# Altium footprint library PCB_Lib.PcbLib: 301 footprints (part 15 of 19)
Each footprint in its own frame and in the unit in brackets; x right, y up, seen from the top. Pads: shape width x height; smd on the part's side, far side on the other; paste and mask are expansions set on the pad; w line width, h text height; cw(c..) or ccw(c..) is an arc to the next point about the centre after c.
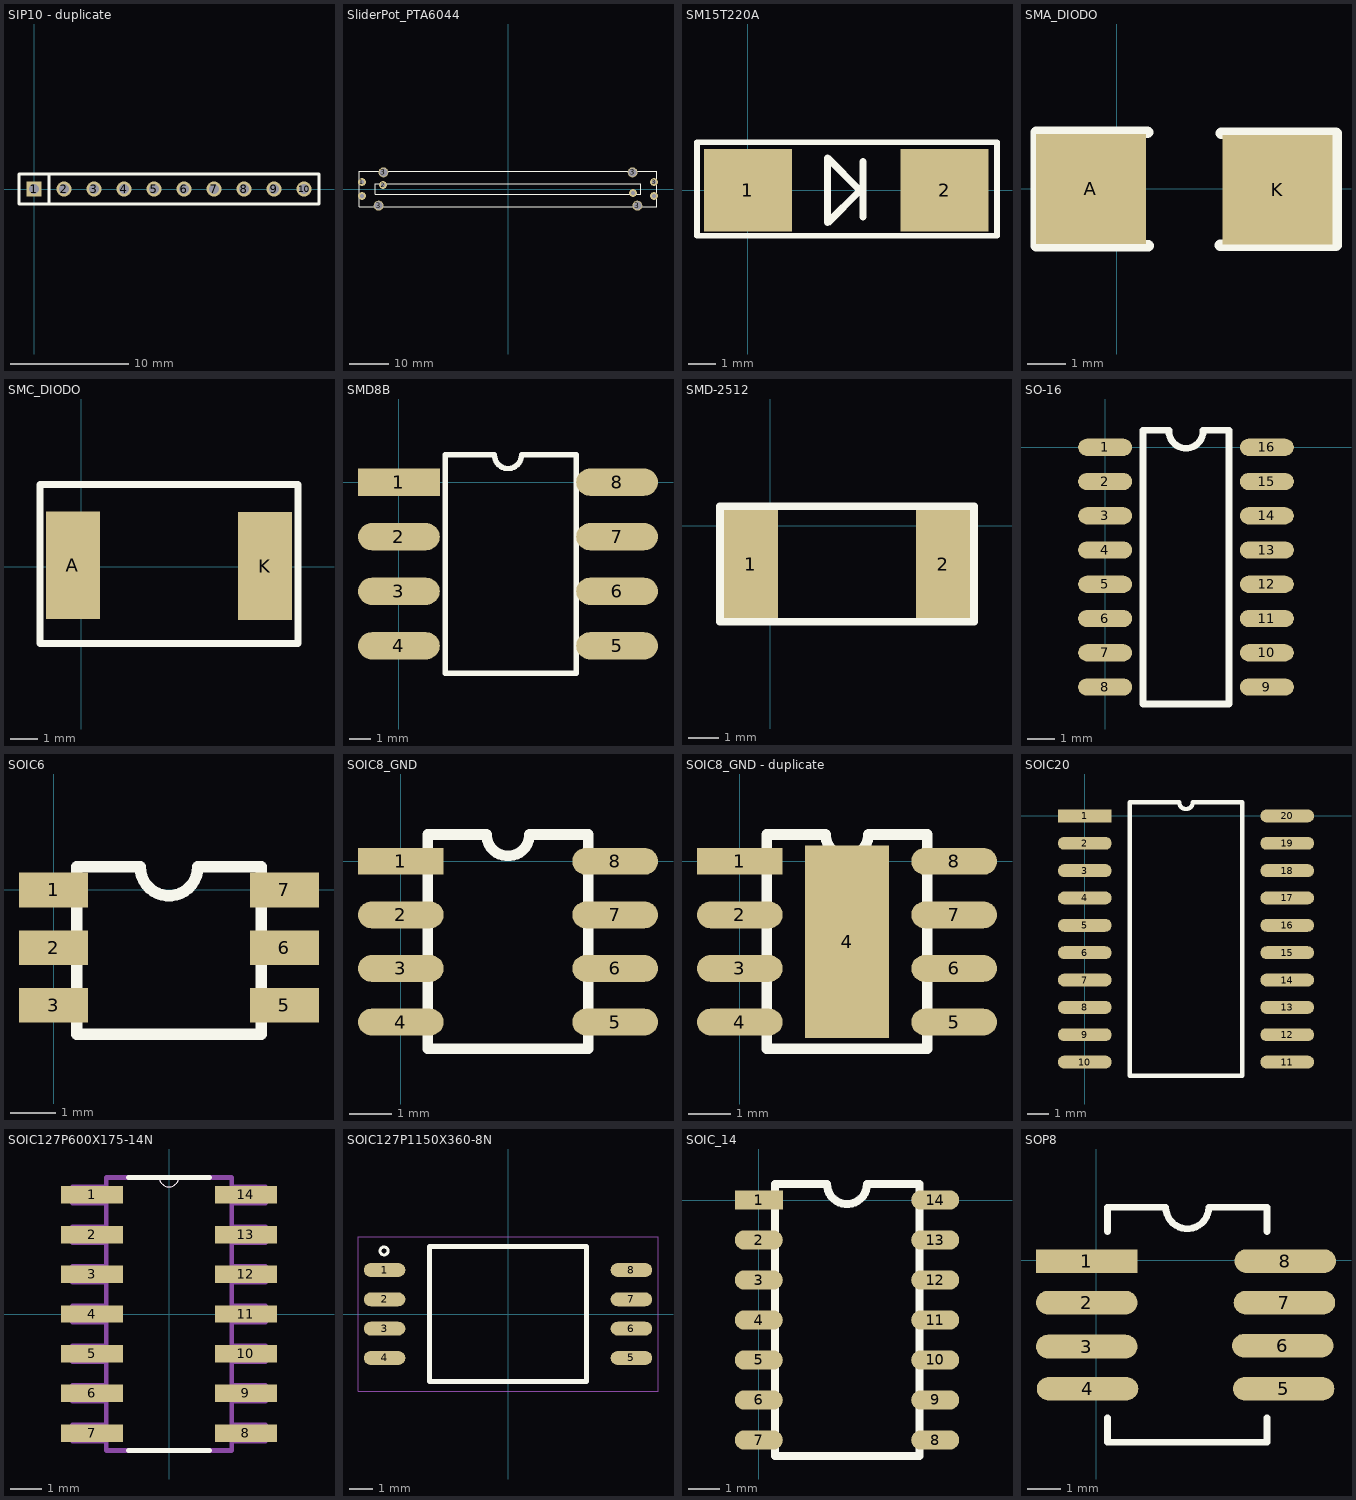
[diagram p14: the footprints below, top view; thin cyan lines are the x and y axes]

## SIP10 - duplicate [mil]
pads (10):
  rect 50x50 hole 32: 1(0,0)
  round 50 hole 32: 2(100,0) 3(200,0) 4(300,0) 5(400,0) 6(500,0) 7(600,0) 8(700,0) 9(800,0) 10(900,0)
Top Overlay:
  lines w10: 50,-50 50,50 ; -50,-50 950,-50 950,50 -50,50 -50,-50

## SliderPot_PTA6044 [mm]
pads (10):
  round 2 hole 1: 1(-36.8,1.75) 1'(-36.8,-1.75) 2(-31.5,1) 2'(31.5,-1) 3(36.8,1.75) 3'(36.8,-1.75)
  round 2.5 hole 2: 3(-32.6,-4.2) 3(-31.4,4.2) 3(31.4,4.2) 3(32.6,-4.2)
Top Overlay:
  lines w0.254: -37.5,-4.5 -37.5,4.5 37.5,4.5 37.5,-4.5 -37.5,-4.5 ; -33.5,-1.3 -33.5,1.3 33.5,1.3 33.5,-1.3 -33.5,-1.3

## SM15T220A [mm]
pads (2):
  rect 3.2x3 smd: 1(0,0) 2(7.15,0)
Top Overlay:
  lines w0.2: -1.85,-1.65 -1.85,1.75 9.05,1.75 9.05,-1.65 -1.85,-1.65
  lines w0.254: 4.175,-0.975 4.175,1.05 ; 2.9,-1.175 2.9,1.175 4.075,0 2.9,-1.175

## SMA_DIODO [mm] "SMD R&C"
pads (2):
  rect 2.87x2.87 smd: A(-0.675,0) K(4.2,-0.025)
Top Overlay:
  lines w0.305: 0.8,1.475 -1.221,1.475 -2.1,1.475 -2.1,-1.485 0.818,-1.485 ; 2.7,-1.475 5.725,-1.475 5.725,1.45 2.725,1.45

## SMC_DIODO [mil] "SMD R&C"
pads (2):
  rect 78.74x157.48 smd: A(-12,2) K(269,1)
Top Overlay:
  lines w10: -60,-112 317,-112 317,1 317,120 -60,120 -60,12 -60,-112

## SMD8B [mil]
pads (8):
  rect 150x50 smd: 1(0,0)
  oval 150x50 smd: 2(0,-100) 3(0,-200) 4(0,-300) 5(400,-300) 6(400,-200) 7(400,-100) 8(400,0)
Top Overlay:
  lines w10: 85,-350 85,50 175,50 ccw(c200,50) 225,50 325,50 325,-350 85,-350

## SMD-2512 [mil]
pads (2):
  rect 70x140 smd: 1(-25,-50) 2(225,-50)
Top Overlay:
  lines w10: -65,-125 -65,25 265,25 265,-125 -65,-125

## SO-16 [mm]
pads (16):
  oval 2x0.635 smd: 1(0,0) 2(0,-1.27) 3(0,-2.54) 4(0,-3.81) 5(0,-5.08) 6(0,-6.35) 7(0,-7.62) 8(0,-8.89) 9(6,-8.89) 10(6,-7.62) 11(6,-6.35) 12(6,-5.08) 13(6,-3.81) 14(6,-2.54) 15(6,-1.27) 16(6,0)
Top Overlay:
  lines w0.254: 2.365,0.6 ccw(c3,0.6) 3.635,0.6 ; 2.365,0.635 1.4,0.635 1.4,-9.525 4.6,-9.525 4.6,0.635 3.635,0.635

## SOIC6 [mil] "Circuito de 6 patas SMD"
height 100
pads (6):
  rect 60x30 smd: 1(0,0) 2(0,-50) 3(0,-100) 5(200,-100) 6(200,-50) 7(200,0)
Top Overlay:
  lines w10: 20,-125 180,-125 180,20 125,20 cw(c100,20) 75,20 20,20 20,-125

## SOIC8_GND [mil] "Con plano de masa inferior"
pads (8):
  rect 80x25 smd: 1(0,0)
  oval 80x25 smd: 2(0,-50) 3(0,-100) 4(0,-150) 5(200,-150) 6(200,-100) 7(200,-50) 8(200,0)
Top Overlay:
  lines w10: 25,-175 175,-175 175,25 120,25 cw(c100,25) 80,25 25,25 25,-175

## SOIC8_GND - duplicate [mil]
pads (9):
  rect 80x25 smd: 1(0,0)
  oval 80x25 smd: 2(0,-50) 3(0,-100) 4(0,-150) 5(200,-150) 6(200,-100) 7(200,-50) 8(200,0)
  rect 78.74x180 smd: 4(100,-75)
Top Overlay:
  lines w10: 25,-175 175,-175 175,25 120,25 cw(c100,25) 80,25 25,25 25,-175

## SOIC20 [mm]
pads (20):
  rect 2.5x0.6 smd: 1(0,0)
  oval 2.5x0.6 smd: 2(0,-1.27) 3(0,-2.54) 4(0,-3.81) 5(0,-5.08) 6(0,-6.35) 7(0,-7.62) 8(0,-8.89) 9(0,-10.16) 10(0,-11.43) 11(9.4,-11.43) 12(9.4,-10.16) 13(9.4,-8.89) 14(9.4,-7.62) 15(9.4,-6.35) 16(9.4,-5.08) 17(9.4,-3.81) 18(9.4,-2.54) 19(9.4,-1.27) 20(9.4,0)
Top Overlay:
  lines w0.2: 2.085,-12.065 2.085,0.635 4.382,0.635 ccw(c4.7,0.635) 5.017,0.635 7.315,0.635 7.315,-12.065 2.085,-12.065
3D body "SW3dPS-SOIC20-300.STEP": height 2.65, standoff 0, extent -0.5,-12.15 9.8,0.65

## SOIC127P600X175-14N [mil]
pads (14):
  rect 78x22 smd: 1(-97,150) 2(-97,100) 3(-97,50) 4(-97,0) 5(-97,-50) 6(-97,-100) 7(-97,-150) 8(97,-150) 9(97,-100) 10(97,-50) 11(97,0) 12(97,50) 13(97,100) 14(97,150)
Top Overlay:
  lines w0: -12,172 ccw(c0,172) 12,172
  lines w6: -51,-172 51,-172 ; -51,172 -12,172 12,172 51,172
Mechanical 4:
  lines w0: -12,172 ccw(c0,172) 12,172 cw(c0,172) -12,172
  lines w6: -122,-160 -79,-160 ; -122,-160 -122,-140 ; -122,-160 -79,-160 ; -122,-160 -122,-140 ; -122,-140 -79,-140 ; -122,-140 -79,-140 ; -122,-110 -79,-110 ; -122,-110 -122,-90 ; -122,-110 -79,-110 ; -122,-110 -122,-90 ; -122,-90 -79,-90 ; -122,-90 -79,-90 ; -122,-60 -79,-60 ; -122,-60 -122,-40 ; -122,-60 -79,-60 ; -122,-60 -122,-40 ; -122,-40 -79,-40 ; -122,-40 -79,-40 ; -122,-10 -79,-10 ; -122,-10 -122,10 ; -122,-10 -79,-10 ; -122,-10 -122,10 ; -122,10 -79,10 ; -122,10 -79,10 ; -122,40 -79,40 ; -122,40 -122,60 ; -122,40 -79,40 ; -122,40 -122,60 ; -122,60 -79,60 ; -122,60 -79,60 ; -122,90 -79,90 ; -122,90 -122,110 ; -122,90 -79,90 ; -122,90 -122,110 ; -122,110 -79,110 ; -122,110 -79,110 ; -122,140 -79,140 ; -122,140 -122,160 ; -122,140 -79,140 ; -122,140 -122,160 ; -122,160 -79,160 ; -122,160 -79,160 ; -79,-172 -79,172 ; -79,-172 79,-172 ; -79,-172 -79,172 ; -79,-172 79,-172 ; -79,-160 -79,-140 ; -79,-160 -79,-140 ; -79,-110 -79,-90 ; -79,-110 -79,-90 ; -79,-60 -79,-40 ; -79,-60 -79,-40 ; -79,-10 -79,10 ; -79,-10 -79,10 ; -79,40 -79,60 ; -79,40 -79,60 ; -79,90 -79,110 ; -79,90 -79,110 ; -79,140 -79,160 ; -79,140 -79,160 ; -79,172 -12,172 ; -79,172 -12,172 ; -12,172 12,172 ; -12,172 12,172 ; 12,172 79,172 ; 12,172 79,172 ; 79,-172 79,172 ; 79,-172 79,172 ; 79,-160 122,-160 ; 79,-160 79,-140 ; 79,-160 122,-160 ; 79,-160 79,-140 ; 79,-140 122,-140 ; 79,-140 122,-140 ; 79,-110 122,-110 ; 79,-110 79,-90 ; 79,-110 122,-110 ; 79,-110 79,-90 ; 79,-90 122,-90 ; 79,-90 122,-90 ; 79,-60 122,-60 ; 79,-60 79,-40 ; 79,-60 122,-60 ; 79,-60 79,-40 ; 79,-40 122,-40 ; 79,-40 122,-40 ; 79,-10 122,-10 ; 79,-10 79,10 ; 79,-10 122,-10 ; 79,-10 79,10 ; 79,10 122,10 ; 79,10 122,10 ; 79,40 122,40 ; 79,40 79,60 ; 79,40 122,40 ; 79,40 79,60 ; 79,60 122,60 ; 79,60 122,60 ; 79,90 122,90 ; 79,90 79,110 ; 79,90 122,90 ; 79,90 79,110 ; 79,110 122,110 ; 79,110 122,110 ; 79,140 122,140 ; 79,140 79,160 ; 79,140 122,140 ; 79,140 79,160 ; 79,160 122,160 ; 79,160 122,160 ; 122,-160 122,-140 ; 122,-160 122,-140 ; 122,-110 122,-90 ; 122,-110 122,-90 ; 122,-60 122,-40 ; 122,-60 122,-40 ; 122,-10 122,10 ; 122,-10 122,10 ; 122,40 122,60 ; 122,40 122,60 ; 122,90 122,110 ; 122,90 122,110 ; 122,140 122,160 ; 122,140 122,160

## SOIC127P1150X360-8N [mm]
pads (8):
  oval 1.8x0.6 smd: 1(-5.35,1.905) 2(-5.35,0.635) 3(-5.35,-0.635) 4(-5.35,-1.905) 5(5.35,-1.905) 6(5.35,-0.635) 7(5.35,0.635) 8(5.35,1.905)
Top Overlay:
  circle w0.127: c-5.37,2.733 r0.173
  lines w0.2: -3.404,-2.925 3.404,-2.925 3.404,2.925 -3.404,2.925 -3.404,-2.925
Mechanical 16:
  lines w0.05: -6.5,-3.35 6.5,-3.35 6.5,3.35 -6.5,3.35 -6.5,-3.35

## SOIC_14 [mil]
pads (14):
  rect 60x24 smd: 1(0,0)
  oval 60x24 smd: 2(0,-50) 3(0,-100) 4(0,-150) 5(0,-200) 6(0,-250) 7(0,-300) 8(220.47,-300) 9(220.47,-250) 10(220.47,-200) 11(220.47,-150) 12(220.47,-100) 13(220.47,-50) 14(220.47,0)
Top Overlay:
  lines w10: 20,-320 20,20 85.24,20 ccw(c110.24,20) 135.24,20 200.79,20 200.79,-320 95,-320 20,-320

## SOP8 [mm]
pads (8):
  rect 3x0.7 smd: 1(-0.275,-0.025)
  oval 3x0.7 smd: 2(-0.275,-1.25) 3(-0.275,-2.55) 4(-0.25,-3.8) 5(5.55,-3.8) 6(5.525,-2.525) 7(5.575,-1.25) 8(5.6,-0.025)
Top Overlay:
  lines w0.2: 0.34,-4.66 0.34,-5.38 5.06,-5.38 5.06,-4.66 ; 0.34,0.85 0.34,1.57 2.065,1.57 ccw(c2.7,1.57) 3.335,1.57 5.06,1.57 5.06,0.85